# Altium schematic symbol library writsband4.SchLib: 7 symbols
Pins are listed as number, name and electrical type; pins without a type are passive.

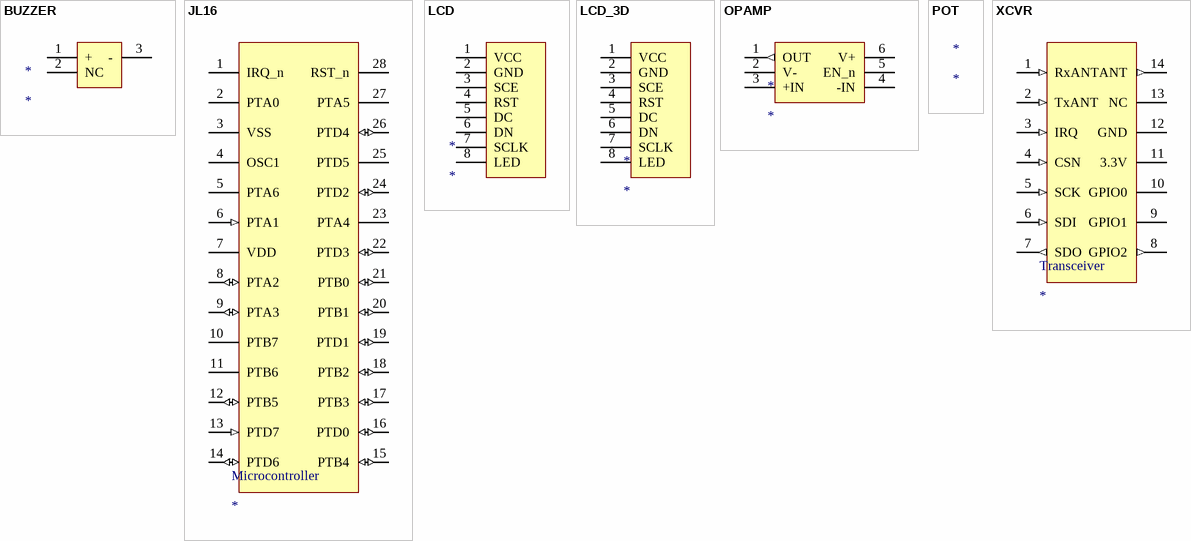
[diagram p0: symbols BUZZER to XCVR]

## BUZZER
designator *
footprint BUZZER_SOJ (SOJ, 3-Leads, Body 4.2x5.5mm (max), Pitch 1.50mm, IPC Low Density)
pins: 1 +, 2 NC, 3 -

## JL16
designator Microcontroller
Freescale MC908JL16
footprint JL16_QUAD32
pins: 1 IRQ_n, 2 PTA0, 3 VSS (power), 4 OSC1, 5 PTA6, 6 PTA1 (in), 7 VDD (power), 8 PTA2 (io), 9 PTA3 (io), 10 PTB7, 11 PTB6, 12 PTB5 (io), 13 PTD7 (in), 14 PTD6 (io), 15 PTB4 (io), 16 PTD0 (io), 17 PTB3 (io), 18 PTB2 (io), 19 PTD1 (io), 20 PTB1 (io), 21 PTB0 (io), 22 PTD3 (io), 23 PTA4, 24 PTD2 (io), 25 PTD5, 26 PTD4 (io), 27 PTA5, 28 RST_n

## LCD
designator *
footprint HEADER1X8
pins: 1 VCC (power), 2 GND (power), 3 SCE, 4 RST, 5 DC, 6 DN, 7 SCLK, 8 LED

## LCD_3D
designator *
footprint LCD (Connector; Header; 8 Position)
pins: 1 VCC (power), 2 GND (power), 3 SCE, 4 RST, 5 DC, 6 DN, 7 SCLK, 8 LED

## OPAMP
designator *
LT6230CS6
footprint OPAMP_SOP6
pins: 1 OUT (out), 2 V- (power), 3 +IN, 4 -IN, 5 EN_n, 6 V+ (power)

## POT
designator *

## XCVR
designator Transceiver
RFM22B
footprint XCVR_SOP16
pins: 1 RxANT (in), 2 TxANT (in), 3 IRQ (in), 4 CSN (in), 5 SCK (in), 6 SDI (in), 7 SDO (out), 8 GPIO2 (out), 9 GPIO1, 10 GPIO0, 11 3.3V (power), 12 GND (power), 13 NC, 14 ANT (out)